# EAGLE library part ARDUINO_MEGA_SHIELD (library RepRapjr_o)
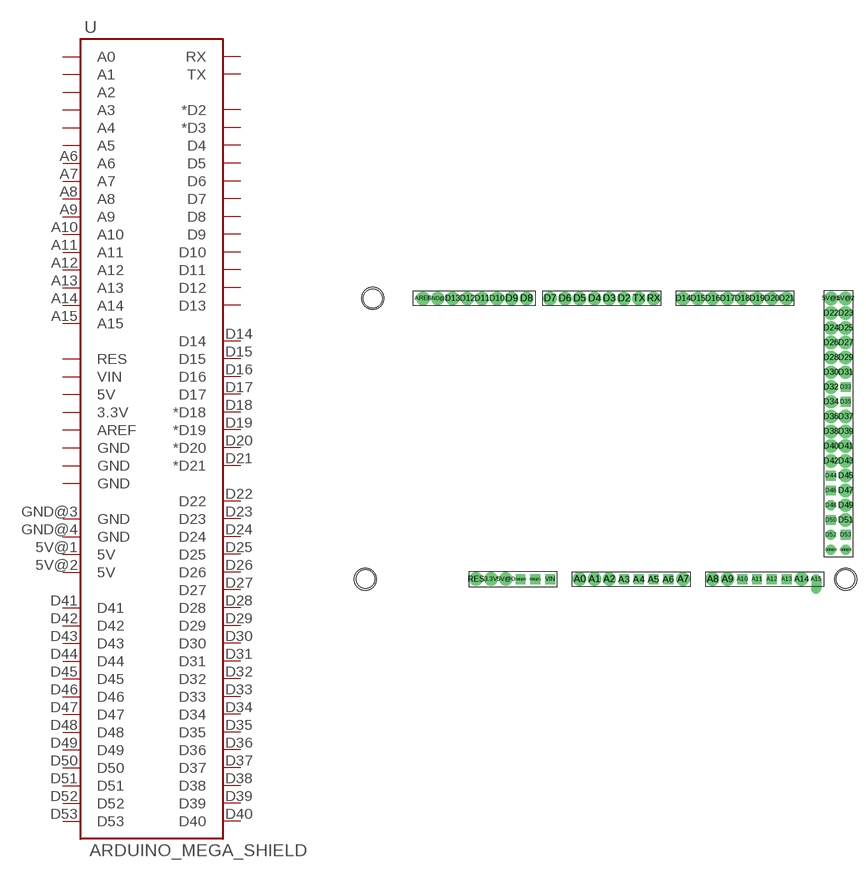
[diagram p2: symbol with the pads of ARDUINO_MEGA_SHIELD; footprint ARDUINO_MEGA_SHIELD]

Designator prefix U

## ARDUINO_MEGA_SHIELD  [ARDUINO_MEGA_SHIELD]
3.3V  3.3V
5V@0  5V  pwr
5V@1  5V  sup
5V@2  5V  sup
A0  A0
A1  A1
A2  A2
A3  A3
A4  A4
A5  A5
A6  A6
A7  A7
A8  A8
A9  A9
A10  A10
A11  A11
A12  A12
A13  A13
A14  A14
A15  A15
AREF  AREF
D2  *D2
D3  *D3
D4  D4
D5  D5
D6  D6
D7  D7
D8  D8
D9  D9
D10  D10
D11  D11
D12  D12
D13  D13
D14  D14
D15  D15
D16  D16
D17  D17
D18  *D18
D19  *D19
D20  *D20
D21  *D21
D22  D22
D23  D23
D24  D24
D25  D25
D26  D26
D27  D27
D28  D28
D29  D29
D30  D30
D31  D31
D32  D32
D33  D33
D34  D34
D35  D35
D36  D36
D37  D37
D38  D38
D39  D39
D40  D40
D41  D41
D42  D42
D43  D43
D44  D44
D45  D45
D46  D46
D47  D47
D48  D48
D49  D49
D50  D50
D51  D51
D52  D52
D53  D53
GND@0  GND  sup
GND@1  GND  sup
GND@2  GND  sup
GND@3  GND  sup
GND@4  GND  sup
RES  RES
RX  RX
TX  TX
VIN  VIN

## ARDUINO_MEGA_SHIELDTLHOLEREMOVED  [ARDUINO_MEGA_SHIELD]
Pads as for ARDUINO_MEGA_SHIELD

## Footprint ARDUINO_MEGA_SHIELD (pad centres in mm)
drill 1 pad 2.3: 3.3V 35.56,2.54; 5V@0 38.1,2.54; 5V@1 93.98,50.8; 5V@2 96.52,50.8; A0 50.8,2.54; A1 53.34,2.54; A2 55.88,2.54; A7 68.58,2.54; A8 73.66,2.54; A9 76.2,2.54; A14 88.9,2.54; AREF 23.876,50.8; D2 58.42,50.8; D3 55.88,50.8; D4 53.34,50.8; D5 50.8,50.8; D6 48.26,50.8; D7 45.72,50.8; D8 41.656,50.8; D9 39.116,50.8; D10 36.576,50.8; D11 34.036,50.8; D12 31.496,50.8; D13 28.956,50.8; D14 68.58,50.8; D15 71.12,50.8; D16 73.66,50.8; D17 76.2,50.8; D18 78.74,50.8; D19 81.28,50.8; D20 83.82,50.8; D21 86.36,50.8; D22 93.98,48.26; D23 96.52,48.26; D24 93.98,45.72; D25 96.52,45.72; D26 93.98,43.18; D27 96.52,43.18; D28 93.98,40.64; D29 96.52,40.64; D30 93.98,38.1; D31 96.52,38.1; D32 93.98,35.56; D34 93.98,33.02; D36 93.98,30.48; D37 96.52,30.48; D38 93.98,27.94; D39 96.52,27.94; D40 93.98,25.4; D41 96.52,25.4; D42 93.98,22.86; D43 96.52,22.86; D45 96.52,20.32; D47 96.52,17.78; D49 96.52,15.24; D51 96.52,12.7; GND@2 26.416,50.8; RES 33.02,2.54; RX 63.5,50.8; TX 60.96,50.8
drill 1 pad 1.7 square: A3 58.42,2.54; A4 60.96,2.54; A5 63.5,2.54; A6 66.04,2.54; A10 78.74,2.54; A11 81.28,2.54; A12 83.82,2.54; A13 86.36,2.54; D33 96.52,35.56; D35 96.52,33.02; D44 93.98,20.32; D46 93.98,17.78; D50 93.98,12.7; D53 96.52,10.16; GND@0 40.64,2.54; GND@1 43.18,2.54; VIN 45.72,2.54
drill 1 pad 1.7 offset: A15 91.44,2.54
drill 1 pad 1.7 octagon: D48 93.98,15.24
drill 1 pad 1.7: D52 93.98,10.16; GND@3 93.98,7.62; GND@4 96.52,7.62
hole 3.2 at 96.52,2.54
hole 3.2 at 13.97,2.54
hole 3.2 at 15.24,50.8